# EAGLE library part UCC28180D (library SamacSys_Parts)
TEXAS INSTRUMENTS - UCC28180D - IC, BOOST PFC CONT, GATE DRIVE, SOIC-8 Source: Datasheet <http://www.ti.com/lit/gpn/ucc28180>
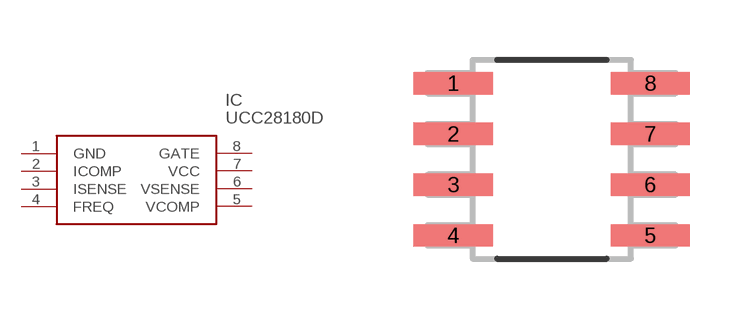
[diagram p0: symbol with the pads of SOIC127P600X175-8N; footprint SOIC127P600X175-8N]

Designator prefix IC

## UCC28180D (DESCRIPTION: TEXAS INSTRUMENTS - UCC28180D - IC, BOOST PFC CONT, GATE DRIVE, SOIC-8; HEIGHT: 1.75mm; MANUFACTURER_NAME: Texas Instruments; MANUFACTURER_PART_NUMBER: UCC28180D; MOUSER_PART_NUMBER: 595-UCC28180D; MOUSER_PRICE-STOCK: https://www.mouser.com/Search/Refine.aspx?Keyword=595-UCC28180D)  [SOIC127P600X175-8N]
1  GND
2  ICOMP
3  ISENSE
4  FREQ
5  VCOMP
6  VSENSE
7  VCC
8  GATE

## Footprint SOIC127P600X175-8N (pad centres in mm)
SOIC127P600X175-8N
smd 1.981 x 0.559: 1 -2.464,1.905; 2 -2.464,0.635; 3 -2.464,-0.635; 4 -2.464,-1.905; 5 2.464,-1.905; 6 2.464,-0.635; 7 2.464,0.635; 8 2.464,1.905